# EAGLE library part TXB0108 (library quentin)
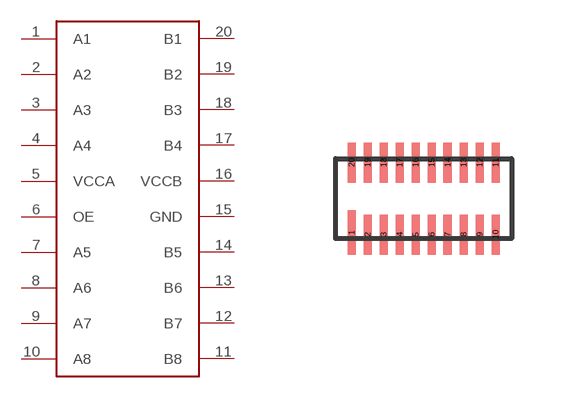
[diagram p17: symbol with the pads of SON20; footprint SON20]

Designator prefix -

## TXB0108DQS  [SON20]
1  A1
2  A2
3  A3
4  A4
5  VCCA
6  OE
7  A5
8  A6
9  A7
10  A8
11  B8
12  B7
13  B6
14  B5
15  GND
16  VCCB
17  B4
18  B3
19  B2
20  B1

## Footprint SON20 (pad centres in mm)
smd 0.2 x 1.1: 1 0,0.05
smd 0.2 x 1: 2 0.4,0; 3 0.8,0; 4 1.2,0; 5 1.6,0; 6 2,0; 7 2.4,0; 8 2.8,0; 9 3.2,0; 10 3.6,0; 11 3.6,1.8; 12 3.2,1.8; 13 2.8,1.8; 14 2.4,1.8; 15 2,1.8; 16 1.6,1.8; 17 1.2,1.8; 18 0.8,1.8; 19 0.4,1.8; 20 0,1.8